# EAGLE library part LM324N (library LM324)
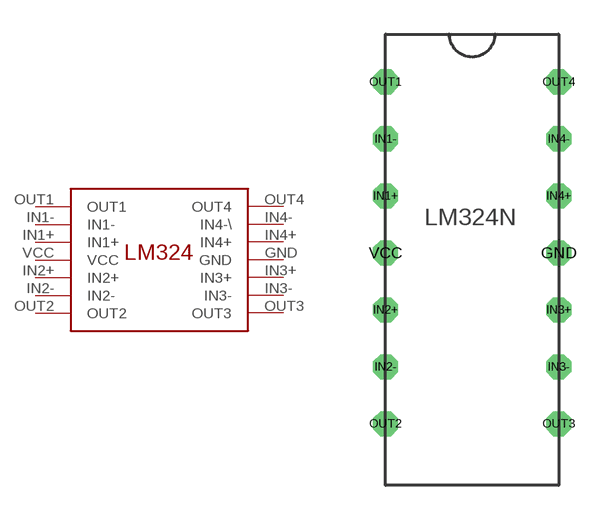
[diagram p0: symbol with the pads of LM324N; footprint LM324N]

Designator prefix U

## LM324N  [LM324N]
GND  GND
IN1+  IN1+
IN1-  IN1-
IN2+  IN2+
IN2-  IN2-
IN3+  IN3+
IN3-  IN3-
IN4+  IN4+
IN4-  IN4-\
OUT1  OUT1
OUT2  OUT2
OUT3  OUT3
OUT4  OUT4
VCC  VCC

## Footprint LM324N (pad centres in mm)
drill 0.6 octagon: GND 3.8,0.3; IN1+ -3.8,2.8; IN1- -3.8,5.3; IN2+ -3.8,-2.2; IN2- -3.8,-4.7; IN3+ 3.8,-2.2; IN3- 3.8,-4.7; IN4+ 3.8,2.8; IN4- 3.8,5.3; OUT1 -3.8,7.8; OUT2 -3.8,-7.2; OUT3 3.8,-7.2; OUT4 3.8,7.8; VCC -3.8,0.3